# EAGLE library part ULN2803A (library OpenMotics)
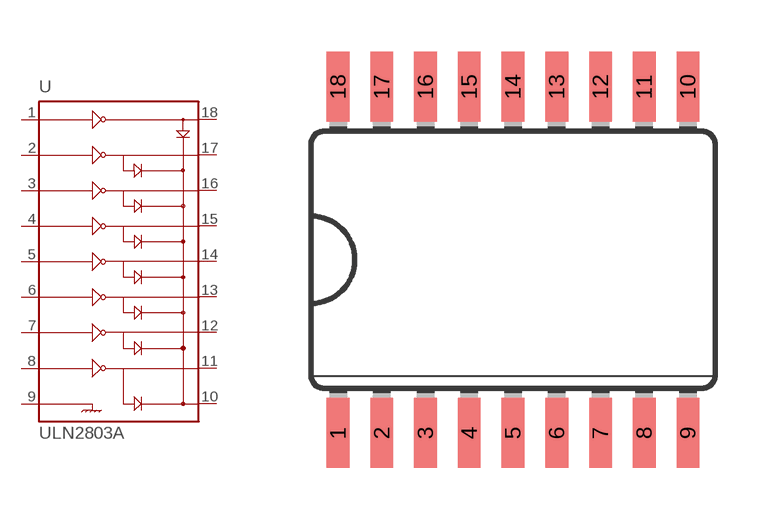
[diagram p29: symbol with the pads of SOIC18; footprint SOIC18]

Designator prefix U

## ULN2803A  [SOIC18]
1  1
2  2
3  3
4  4
5  5
6  6
7  7
8  8
9  9
10  10
11  11
12  12
13  13
14  14
15  15
16  16
17  17
18  18

## Footprint SOIC18 (pad centres in mm)
smd 0.66 x 2.032: 1 1.27,0.051; 2 2.54,0.051; 3 3.81,0.051; 4 5.08,0.051; 5 6.35,0.051; 6 7.62,0.051; 7 8.89,0.051; 8 10.16,0.051; 9 11.43,0.051; 10 11.43,10.109; 11 10.16,10.109; 12 8.89,10.109; 13 7.62,10.109; 14 6.35,10.109; 15 5.08,10.109; 16 3.81,10.109; 17 2.54,10.109; 18 1.27,10.109